# EAGLE library part 2X3PIN-2.54MM-F-HEADER (library Itead-misc)
CON007
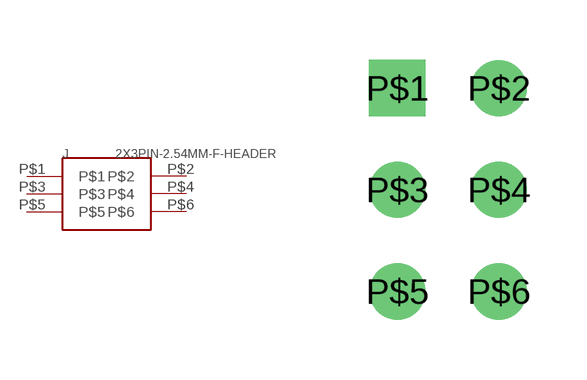
[diagram p7: symbol with the pads of 2X3-2.54MM; footprint 2X3-2.54MM]

Designator prefix J

## 2X3PIN-2.54MM-F-HEADER  [2X3-2.54MM]
P$1  P$1
P$2  P$2
P$3  P$3
P$4  P$4
P$5  P$5
P$6  P$6

## Footprint 2X3-2.54MM (pad centres in mm)
drill 0.9 square: P$1 0,0
drill 0.9 round: P$2 2.54,0; P$3 0,-2.54; P$4 2.54,-2.54; P$5 0,-5.08; P$6 2.54,-5.08